# Altium schematic symbol library SHOUHAN.SchLib: 1 symbol
Pins are listed as number, name and electrical type; pins without a type are passive.

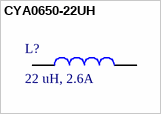
[diagram p0: symbol CYA0650-22UH]

## CYA0650-22UH
designator L?, comment 22 uH, 2.6A
2.6 A 22 uH 3.5 A 110 mΩ ±20% SMD,7.1x6.6mm Fixed Inductors RoHS; Manufacturer: SHOU HAN; Manufacturer Part Number: CYA0650-22UH; DC Resistance max.: 130 mΩ; DC Resistance typ.: 110 mΩ; Inductance: 22uH; Saturation Current: 3.5 A; Value: 22 uH; ComponentLink1Description: Datasheet; ComponentLink1URL: https://www.lcsc.com/datasheet/C5189963.pdf?spm=wm.sxq.inf.ggs___wm.fly.bg.2.xh&lcsc_vid=FQMKBABWTgUIBQJQFFEMBgBUFFIPVlNeFQReAQVWFFgxVlNeQlJfUFNSQ1JeUzsOAxUeFF5JWBYZEEoKFBINSQcJGk4NBhADEA4cHktXRlVcSQwSGg0%3D; LCSC Part #: C5189963; Mount: SMD/SMT; Operating Temperature: -40 to +125degC; Packaging: Tape and Reel; Rated Current: 2.6 A; Rated Voltage: N/A; Self Resonant Frequency: N/A; Size: 0650; Supplier 1: Mouser; Supplier 1 Part Number: N/A; Supplier 1 URL: N/A; Supplier 2: Digi-Key; Supplier 2 Part Number: N/A; Supplier 2 URL: N/A; Supplier 3: thegioiic; Supplier 3 Part Number: N/A; Supplier 3 URL: N/A
footprint CYA0650 (Precision Wire Wound Inductor, 2-Leads, Body 7.00x6.60mm, IPC Medium Density)
pins: 1, 2